# EAGLE library part ATTINY10 (library dubec)
8-bit AVR Microcontroller with 1kB flash
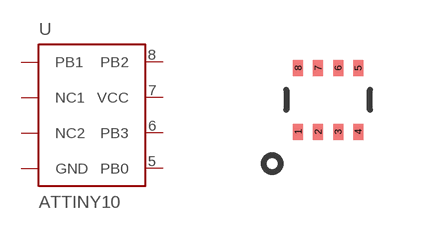
[diagram p1: symbol with the pads of 8MA4; footprint 8MA4]

Designator prefix -

## ATTINY10  [8MA4]
1  PB1
2  NC1  nc
3  NC2  nc
4  GND  pwr
5  PB0
6  PB3
7  VCC  pwr
8  PB2

## Footprint 8MA4 (pad centres in mm)
smd 0.25 x 0.4: 1 -0.75,-0.8; 2 -0.25,-0.8; 3 0.25,-0.8; 4 0.75,-0.8; 5 0.75,0.8; 6 0.25,0.8; 7 -0.25,0.8; 8 -0.75,0.8